# EAGLE library part 62000611722 (library Wurth_Elektronik_Electromechanic_Wire_to_Board_Connectors_rev16a)
WR-WTB 2.00mm Male Horizontal Shrouded Header, 6 Pins=>Code : Con_WTB_2.00_PCB_THT_62000611722 <http://katalog.we-online.de/media/thumbs2/eican/thb_Con_WTB_2.00_PCB_THT_6200xx11722_pf2.jpg> Details see: http://katalog.we-online.de/en/em/620_0xx_117_22 Created 2014-06-05, Karrer Zheng 2014 (C) Würth Elektronik
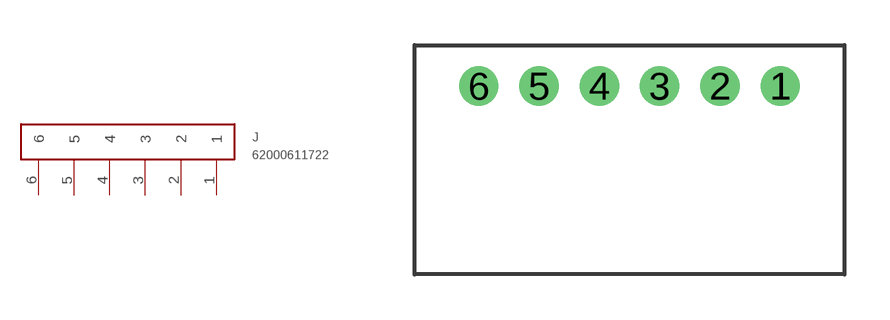
[diagram p30: symbol with the pads of 62000611722; footprint 62000611722]

Designator prefix J

## 62000611722  [62000611722]
1  1  pas
2  2  pas
3  3  pas
4  4  pas
5  5  pas
6  6  pas

## Footprint 62000611722 (pad centres in mm)
WR-WTB 2.00mm Male Horizontal Shrouded Header, 6 Pins
drill 0.8: 1 1,0; 2 -1,0; 3 -3,0; 4 -5,0; 5 -7,0; 6 -9,0